# Altium schematic symbol library SCH - POWER - LINEAR VREG - TI LM1086-3P3NDE.SchLib: 1 symbol
Pins are listed as number, name and electrical type; pins without a type are passive.

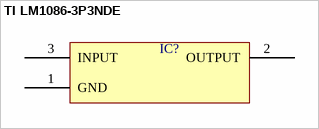
[diagram p0: symbol TI LM1086-3P3NDE]

## TI LM1086-3P3NDE
designator IC?  (value not drawn)
pins: 1 GND, 2 OUTPUT, 3 INPUT